# EAGLE library part RPI_4_CONN (library dawidkulpa_con)
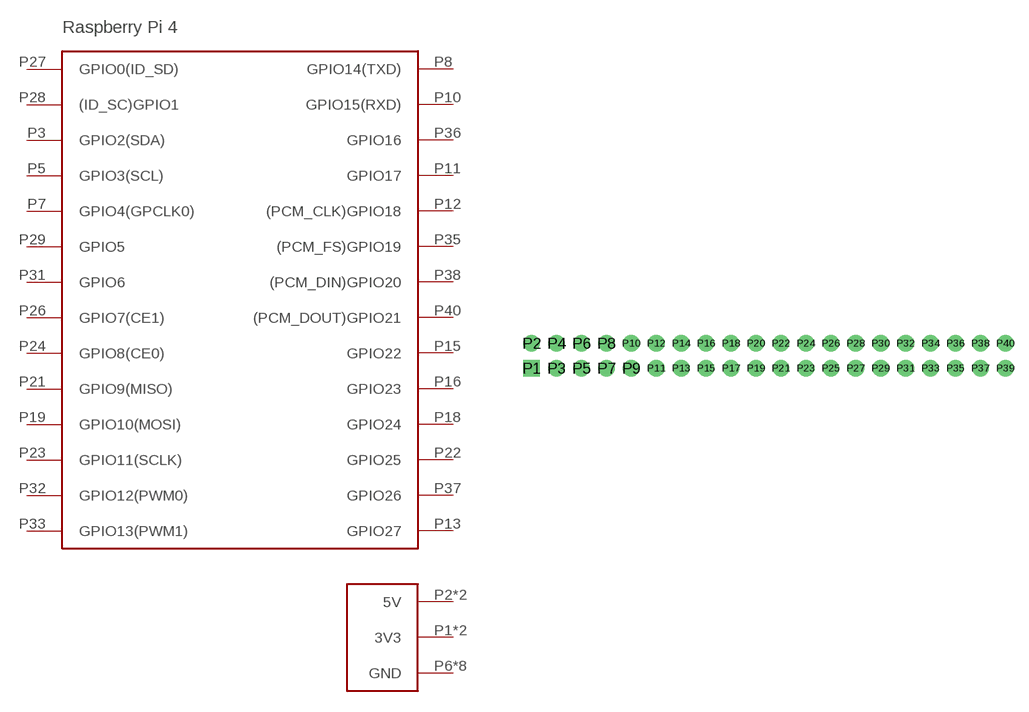
[diagram p12: symbol with the pads of GP_40M; footprint GP_40M]

Designator prefix -

## RPI_4_CONN  [GP_40M]
P1  3V3
P2  5V
P3  GPIO2(SDA)
P4  5V
P5  GPIO3(SCL)
P6  GND
P7  GPIO4(GPCLK0)
P8  GPIO14(TXD)
P9  GND
P10  GPIO15(RXD)
P11  GPIO17
P12  (PCM_CLK)GPIO18
P13  GPIO27
P14  GND
P15  GPIO22
P16  GPIO23
P17  3V3
P18  GPIO24
P19  GPIO10(MOSI)
P20  GND
P21  GPIO9(MISO)
P22  GPIO25
P23  GPIO11(SCLK)
P24  GPIO8(CE0)
P25  GND
P26  GPIO7(CE1)
P27  GPIO0(ID_SD)
P28  (ID_SC)GPIO1
P29  GPIO5
P30  GND
P31  GPIO6
P32  GPIO12(PWM0)
P33  GPIO13(PWM1)
P34  GND
P35  (PCM_FS)GPIO19
P36  GPIO16
P37  GPIO26
P38  (PCM_DIN)GPIO20
P39  GND
P40  (PCM_DOUT)GPIO21

## Footprint GP_40M (pad centres in mm)
drill 1 pad 1.7 square: P1 -24.13,-1.27
drill 1 pad 1.7: P2 -24.13,1.27; P3 -21.59,-1.27; P4 -21.59,1.27; P5 -19.05,-1.27; P6 -19.05,1.27; P7 -16.51,-1.27; P8 -16.51,1.27; P9 -13.97,-1.27; P10 -13.97,1.27; P11 -11.43,-1.27; P12 -11.43,1.27; P13 -8.89,-1.27; P14 -8.89,1.27; P15 -6.35,-1.27; P16 -6.35,1.27; P17 -3.81,-1.27; P18 -3.81,1.27; P19 -1.27,-1.27; P20 -1.27,1.27; P21 1.27,-1.27; P22 1.27,1.27; P23 3.81,-1.27; P24 3.81,1.27; P25 6.35,-1.27; P26 6.35,1.27; P27 8.89,-1.27; P28 8.89,1.27; P29 11.43,-1.27; P30 11.43,1.27; P31 13.97,-1.27; P32 13.97,1.27; P33 16.51,-1.27; P34 16.51,1.27; P35 19.05,-1.27; P36 19.05,1.27; P37 21.59,-1.27; P38 21.59,1.27; P39 24.13,-1.27; P40 24.13,1.27